# EAGLE library part MAX11300 (library Maxim Integrated)
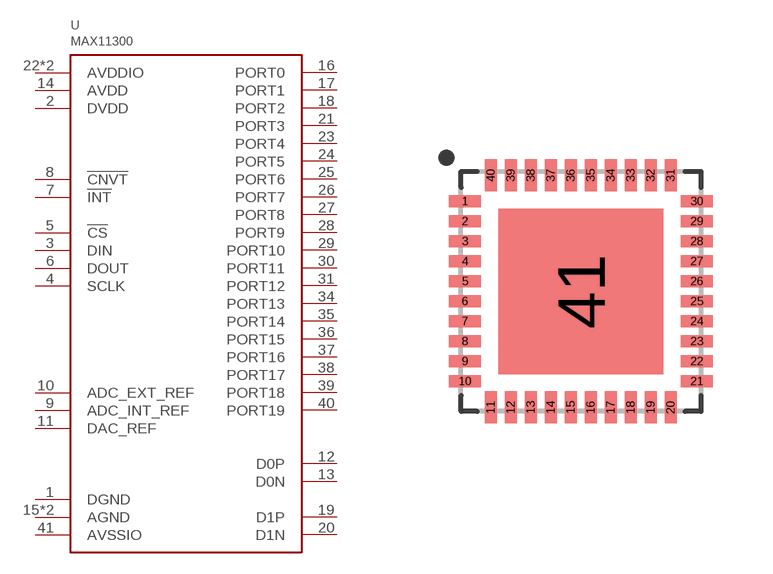
[diagram p4: symbol with the pads of QFN40; footprint QFN40]

Designator prefix U

## MAX11300  [QFN40]
1  DGND
2  DVDD
3  DIN
4  SCLK
5  !CS
6  DOUT
7  !INT
8  !CNVT
9  ADC_INT_REF
10  ADC_EXT_REF
11  DAC_REF
12  D0P
13  D0N
14  AVDD
15  AGND
16  PORT0
17  PORT1
18  PORT2
19  D1P
20  D1N
21  PORT3
22  AVDDIO
23  PORT4
24  PORT5
25  PORT6
26  PORT7
27  PORT8
28  PORT9
29  PORT10
30  PORT11
31  PORT12
32  AGND
33  AVDDIO
34  PORT13
35  PORT14
36  PORT15
37  PORT16
38  PORT17
39  PORT18
40  PORT19
41  AVSSIO

## Footprint QFN40 (pad centres in mm)
smd 0.8 x 0.3: 1 -2.9,2.25; 2 -2.9,1.75; 3 -2.9,1.25; 4 -2.9,0.75; 5 -2.9,0.25; 6 -2.9,-0.25; 7 -2.9,-0.75; 8 -2.9,-1.25; 9 -2.9,-1.75; 10 -2.9,-2.25; 21 2.9,-2.25; 22 2.9,-1.75; 23 2.9,-1.25; 24 2.9,-0.75; 25 2.9,-0.25; 26 2.9,0.25; 27 2.9,0.75; 28 2.9,1.25; 29 2.9,1.75; 30 2.9,2.25
smd 0.3 x 0.8: 11 -2.25,-2.9; 12 -1.75,-2.9; 13 -1.25,-2.9; 14 -0.75,-2.9; 15 -0.25,-2.9; 16 0.25,-2.9; 17 0.75,-2.9; 18 1.25,-2.9; 19 1.75,-2.9; 20 2.25,-2.9; 31 2.25,2.9; 32 1.75,2.9; 33 1.25,2.9; 34 0.75,2.9; 35 0.25,2.9; 36 -0.25,2.9; 37 -0.75,2.9; 38 -1.25,2.9; 39 -1.75,2.9; 40 -2.25,2.9
smd 4.13 x 4.13: 41 0,0